# EAGLE library part AS-ITM-00227 (library tinycircuits)
RF System on a Chip - SoC BLUETOOTH LW ENERGY SLAVE CONNCTIVTY-CHP
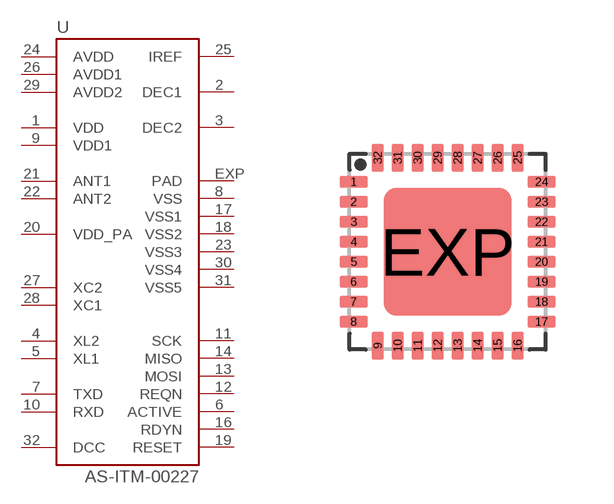
[diagram p96: symbol with the pads of ATMEL_QFN32; footprint ATMEL_QFN32]

Designator prefix U

## AS-ITM-00227 (PARTNO: AS-ITM-00227; VALUE: NRF8001)  [ATMEL_QFN32]
1  VDD
2  DEC1
3  DEC2
4  XL2
5  XL1
6  ACTIVE
7  TXD
8  VSS
9  VDD1
10  RXD
11  SCK
12  REQN
13  MOSI
14  MISO
16  RDYN
17  VSS1
18  VSS2
19  RESET
20  VDD_PA
21  ANT1
22  ANT2
23  VSS3
24  AVDD
25  IREF
26  AVDD1
27  XC2
28  XC1
29  AVDD2
30  VSS4
31  VSS5
32  DCC
EXP  PAD

## Footprint ATMEL_QFN32 (pad centres in mm)
QFN 32 5 x 5 mm Source: http://datasheets.maxim-ic.com/en/ds/MAX7042.pdf
smd 0.711 x 0.305: 1 -2.351,1.75; 2 -2.351,1.25; 3 -2.351,0.75; 4 -2.351,0.25; 5 -2.351,-0.25; 6 -2.351,-0.75; 7 -2.351,-1.25; 8 -2.351,-1.75; 17 2.351,-1.75; 18 2.351,-1.25; 19 2.351,-0.75; 20 2.351,-0.25; 21 2.351,0.25; 22 2.351,0.75; 23 2.351,1.25; 24 2.351,1.75
smd 0.305 x 0.711: 9 -1.75,-2.351; 10 -1.25,-2.351; 11 -0.75,-2.351; 12 -0.25,-2.351; 13 0.25,-2.351; 14 0.75,-2.351; 15 1.25,-2.351; 16 1.75,-2.351; 25 1.75,2.351; 26 1.25,2.351; 27 0.75,2.351; 28 0.25,2.351; 29 -0.25,2.351; 30 -0.75,2.351; 31 -1.25,2.351; 32 -1.75,2.351
smd 3.2 x 3.2: EXP 0,0